# Altium integrated library MT3608.IntLib: 1 symbol
Pins are listed as number, name and electrical type; pins without a type are passive.

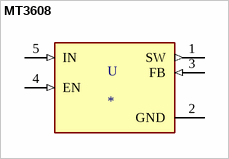
[diagram p0: symbol MT3608]

## MT3608
designator U
High Efficiency 1.2MHz2A Step Up Converter; MF: Aerosemi Technology Co., Ltd; MP: MT3608; Package: Package Analog Devices; Availability: Unavailable; Value: *; SnapEDA_Link: https://www.snapeda.com/parts/MT3608/Aerosemi%20Technology%20Co.%2C%20Ltd/view-part/3218014/?ref=snap; Price: None
footprint SOT95P280X145-6N
pins: 1 SW (out), 2 GND (power), 3 FB (in), 4 EN (in), 5 IN (in)